# Altium schematic symbol library Inductors.SchLib: 2 symbols
Pins are listed as number, name and electrical type; pins without a type are passive.

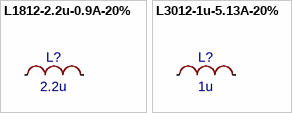
[diagram p0: symbols L1812-2.2u-0.9A-20% to L3012-1u-5.13A-20%]

## L1812-2.2u-0.9A-20%
designator L?, comment 2.2u
LQH43CN2R2M03L
footprint Murata LQH43CN (Precision Wire Wound Inductor, 2-Leads, Body 4,50x3,20mm, IPC Medium Density)
pins: 1, 2

## L3012-1u-5.13A-20%
designator L?, comment 1u
VLS3012HBX-1R0M
footprint TDK VLS3012HBX (Precision Wire Wound Inductor, 2-Leads, Body 4,50x3,20mm, IPC Medium Density)
pins: 1, 2